# Altium schematic symbol library CM.SchLib: 57 symbols (part 2 of 2)
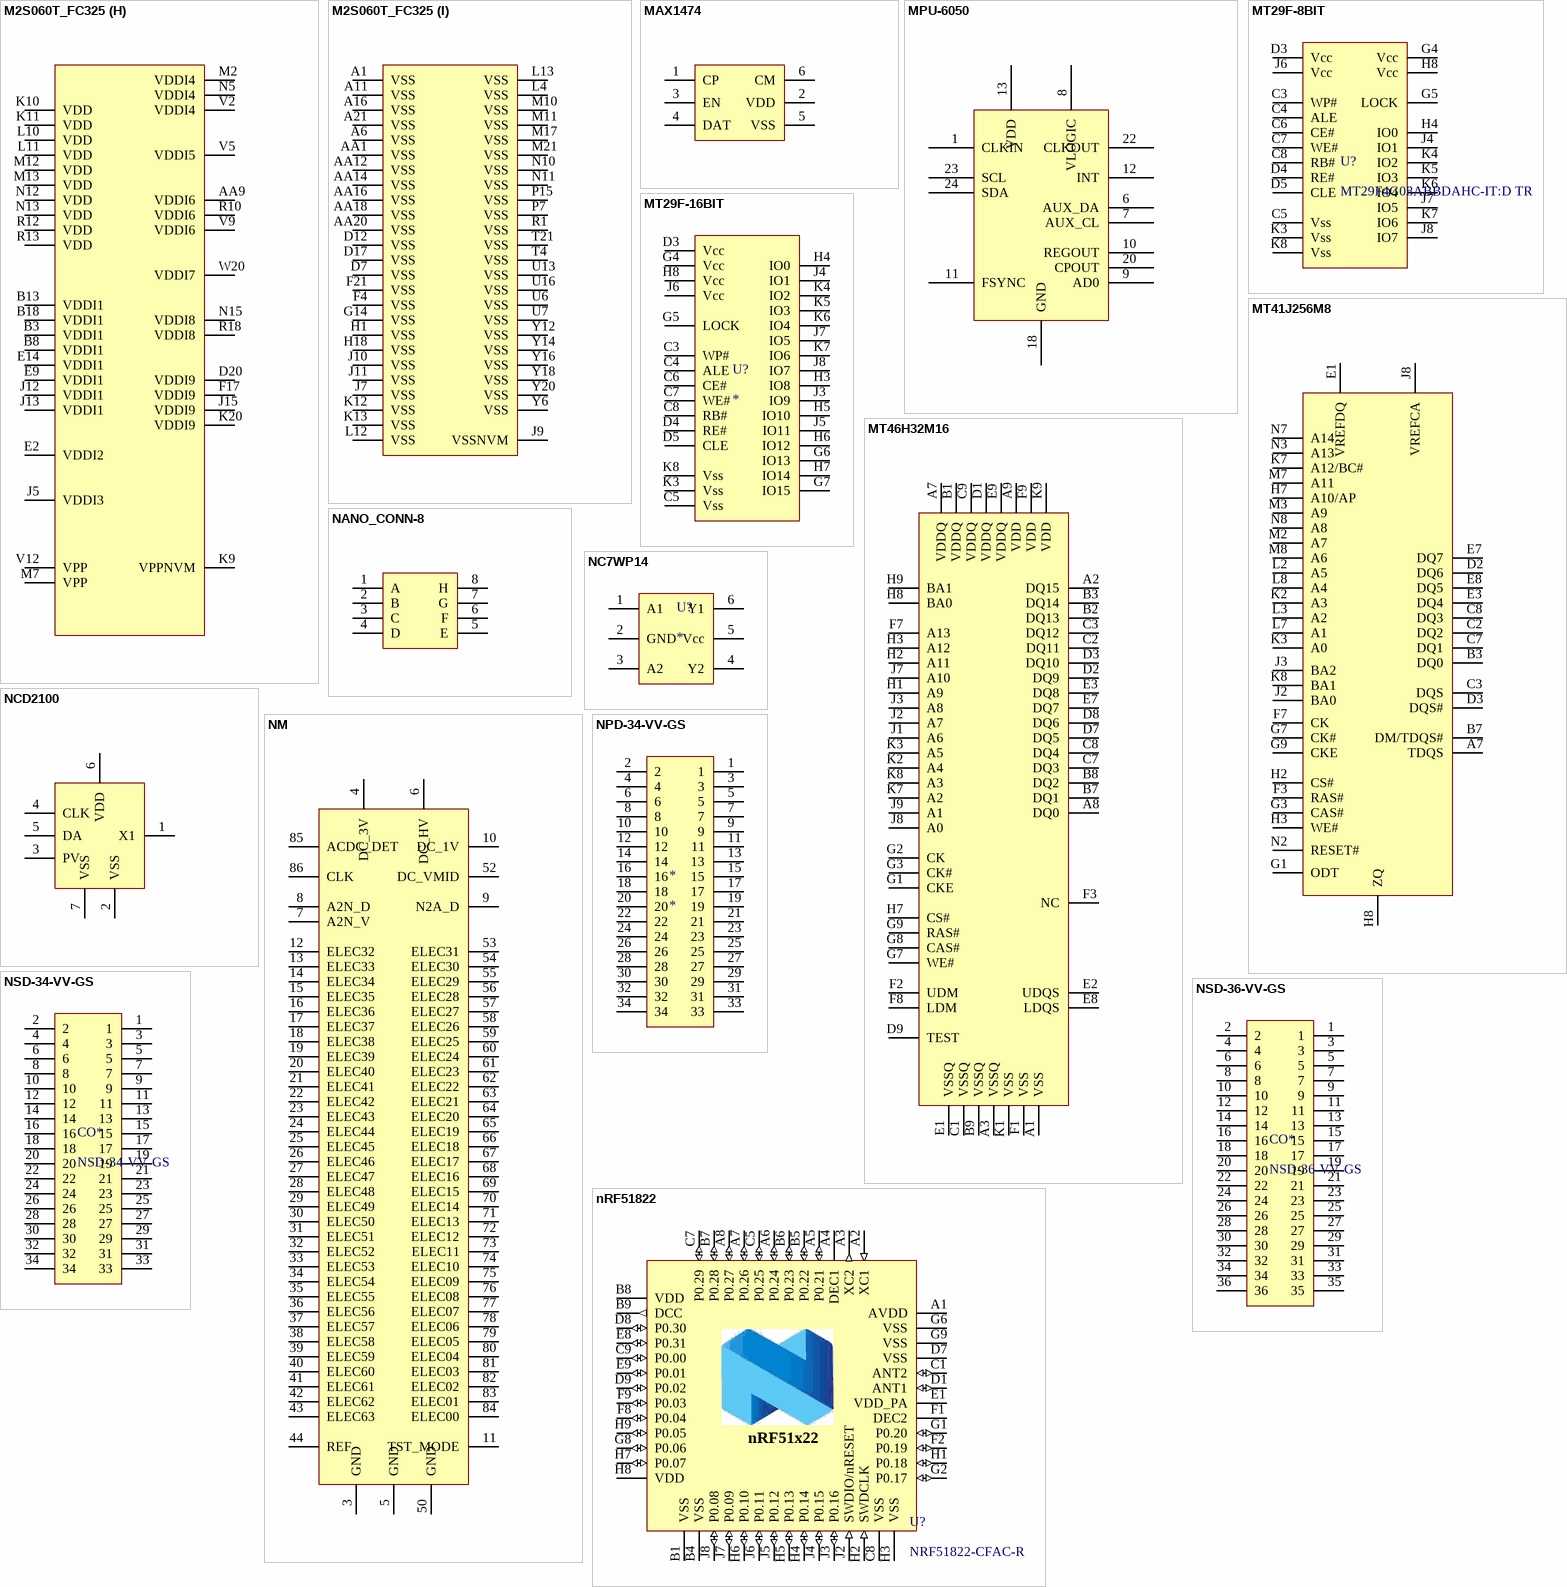
[diagram p13: symbols M2S060T_FC325 to NSD-36-VV-GS]

## MT46H32M16
designator U?
Micron DRAM, 512Mb, 16x32; Manufacturer: Micron; Manufacturer PN: MT46H32M16; Supplier PN: 557-1727-1-ND; Supplier: Digikey
footprint VFBGA-60
pins: A1 VSS, A2 DQ15, A3 VSSQ, A7 VDDQ (power), A8 DQ0, A9 VDD (power), B1 VDDQ (power), B2 DQ13, B3 DQ14, B7 DQ1, B8 DQ2, B9 VSSQ, C1 VSSQ, C2 DQ11, C3 DQ12, C7 DQ3, C8 DQ4, C9 VDDQ (power), D1 VDDQ (power), D2 DQ9, D3 DQ10, D7 DQ5, D8 DQ6, D9 TEST, E1 VSSQ, E2 UDQS, E3 DQ8, E7 DQ7, E8 LDQS, E9 VDDQ (power), F1 VSS, F2 UDM, F3 NC, F7 A13, F8 LDM, F9 VDD (power), G1 CKE, G2 CK, G3 CK#, G7 WE#, G8 CAS#, G9 RAS#, H1 A9, H2 A11, H3 A12, H7 CS#, H8 BA0, H9 BA1, J1 A6, J2 A7, J3 A8, J7 A10, J8 A0, J9 A1, K1 VSS, K2 A4, K3 A5, K7 A2, K8 A3, K9 VDD (power)

## NANO_CONN-8
designator CO?, comment A79613-001
Omnetics connector; Manufacturer: Omnetics; Manufacturer PN: A79613-001
footprint NANO_CONN-8
pins: 1 A, 2 B, 3 C, 4 D, 5 E, 6 F, 7 G, 8 H

## NC7WP14
designator U?
IC
footprint micropak
pins: 1 A1, 2 GND, 3 A2, 4 Y2, 5 Vcc, 6 Y1

## NCD2100
designator U?
Programmable capacitor
footprint DFN-6 - ixys
pins: 1 X1, 2 VSS, 3 PV, 4 CLK, 5 DA, 6 VDD, 7 VSS

## NM
designator U?
Neuromodulator
footprint NM (Neuromodulator)
footprint NMv2
pins: 1 AC_PWR+ hidden, 2 AC_PWR- hidden, 3 GND (power), 4 DC_3V (power), 5 GND (power), 6 DC_HV, 7 A2N_V, 8 A2N_D, 9 N2A_D, 10 DC_1V, 11 TST_MODE, 12 ELEC32, 13 ELEC33, 14 ELEC34, 15 ELEC35, 16 ELEC36, 17 ELEC37, 18 ELEC38, 19 ELEC39, 20 ELEC40, 21 ELEC41, 22 ELEC42, 23 ELEC43, 24 ELEC44, 25 ELEC45, 26 ELEC46, 27 ELEC47, 28 ELEC48, 29 ELEC49, 30 ELEC50, 31 ELEC51, 32 ELEC52, 33 ELEC53, 34 ELEC54, 35 ELEC55, 36 ELEC56, 37 ELEC57, 38 ELEC58, 39 ELEC59, 40 ELEC60, 41 ELEC61, 42 ELEC62, 43 ELEC63, 44 REF, 45 COUNT hidden, 46 PAC hidden, 47 A_TST_HV hidden, 48 A_TST_BG hidden, 49 A_TEST hidden, 50 GND (power), 51 D_TEST hidden, 52 DC_VMID, 53 ELEC31, 54 ELEC30, 55 ELEC29, 56 ELEC28, 57 ELEC27, 58 ELEC26, 59 ELEC25, 60 ELEC24, 61 ELEC23, 62 ELEC22, 63 ELEC21, 64 ELEC20, 65 ELEC19, 66 ELEC18, 67 ELEC17, 68 ELEC16, 69 ELEC15, 70 ELEC14, 71 ELEC13, 72 ELEC12, 73 ELEC11, 74 ELEC10, 75 ELEC09, 76 ELEC08, 77 ELEC07, 78 ELEC06, 79 ELEC05, 80 ELEC04, 81 ELEC03, 82 ELEC02, 83 ELEC01, 84 ELEC00, 85 ACDC_DET, 86 CLK

## NPD-34-VV-GS
designator *
Omnetics connector for Mario
footprint NPD-34-VV-GS
pins: 1, 2, 3, 4, 5, 6, 7, 8, 9, 10, 11, 12, 13, 14, 15, 16, 17, 18, 19, 20, 21, 22, 23, 24, 25, 26, 27, 28, 29, 30, 31, 32, 33, 34

## nRF51822
designator U?, comment NRF51822-CFAC-R
IC; Manufacturer: Nordic; Manufacturer PN: NRF51822-CFAC-R; Supplier: Digikey; Supplier PN: 1490-1041-1-ND
footprint BGA_NORDIC
pins: A1 AVDD (power), A2 XC1 (in), A3 XC2 (out), A4 DEC1 (power), A5 P0.21 (io), A6 P0.24 (io), A7 P0.26 (io), A8 P0.27 (io), B1 VSS (power), B4 VSS (power), B5 P0.22 (io), B6 P0.23 (io), B7 P0.28 (io), B8 VDD (power), B9 DCC (out), C1 ANT2 (io), C5 P0.25 (io), C7 P0.29 (io), C8 VSS (power), C9 P0.00 (io), D1 ANT1 (io), D7 VSS (power), D8 P0.30 (io), D9 P0.02 (io), E1 VDD_PA (power), E8 P0.31 (io), E9 P0.01 (io), F1 DEC2 (power), F2 P0.19 (io), F8 P0.04 (io), F9 P0.03 (io), G1 P0.20 (io), G2 P0.17 (io), G6 VSS (power), G8 P0.06 (io), G9 VSS (power), H1 P0.18 (io), H2 SWDCLK (in), H3 VSS (power), H4 P0.14 (io), H5 P0.13 (io), H6 P0.10 (io), H7 P0.07 (io), H8 VDD (power), H9 P0.05 (io), J2 SWDIO/nRESET (in), J3 P0.16 (io), J4 P0.15 (io), J5 P0.12 (io), J6 P0.11 (io), J7 P0.09 (io), J8 P0.08 (io)
text: nRF51x22

## NSD-34-VV-GS
designator CO*
Omnetics connector for Mario; Manufacturer PN: A79051-001; Manufacturer: Omnetics; Supplier PN: A79051-001; Supplier: Omnetics
footprint NSD-34-VV-GS
pins: 1, 2, 3, 4, 5, 6, 7, 8, 9, 10, 11, 12, 13, 14, 15, 16, 17, 18, 19, 20, 21, 22, 23, 24, 25, 26, 27, 28, 29, 30, 31, 32, 33, 34

## NSD-36-VV-GS
designator CO*
Omnetics connector, 36 pin female; Manufacturer PN: A79027-001; Note: NSD-36-VV-GS with four guide pins; Manufacturer: Omnetics; Supplier PN: A79027-001; Supplier: Omnetics
footprint NSD-36-VV-GS
pins: 1, 2, 3, 4, 5, 6, 7, 8, 9, 10, 11, 12, 13, 14, 15, 16, 17, 18, 19, 20, 21, 22, 23, 24, 25, 26, 27, 28, 29, 30, 31, 32, 33, 34, 35, 36

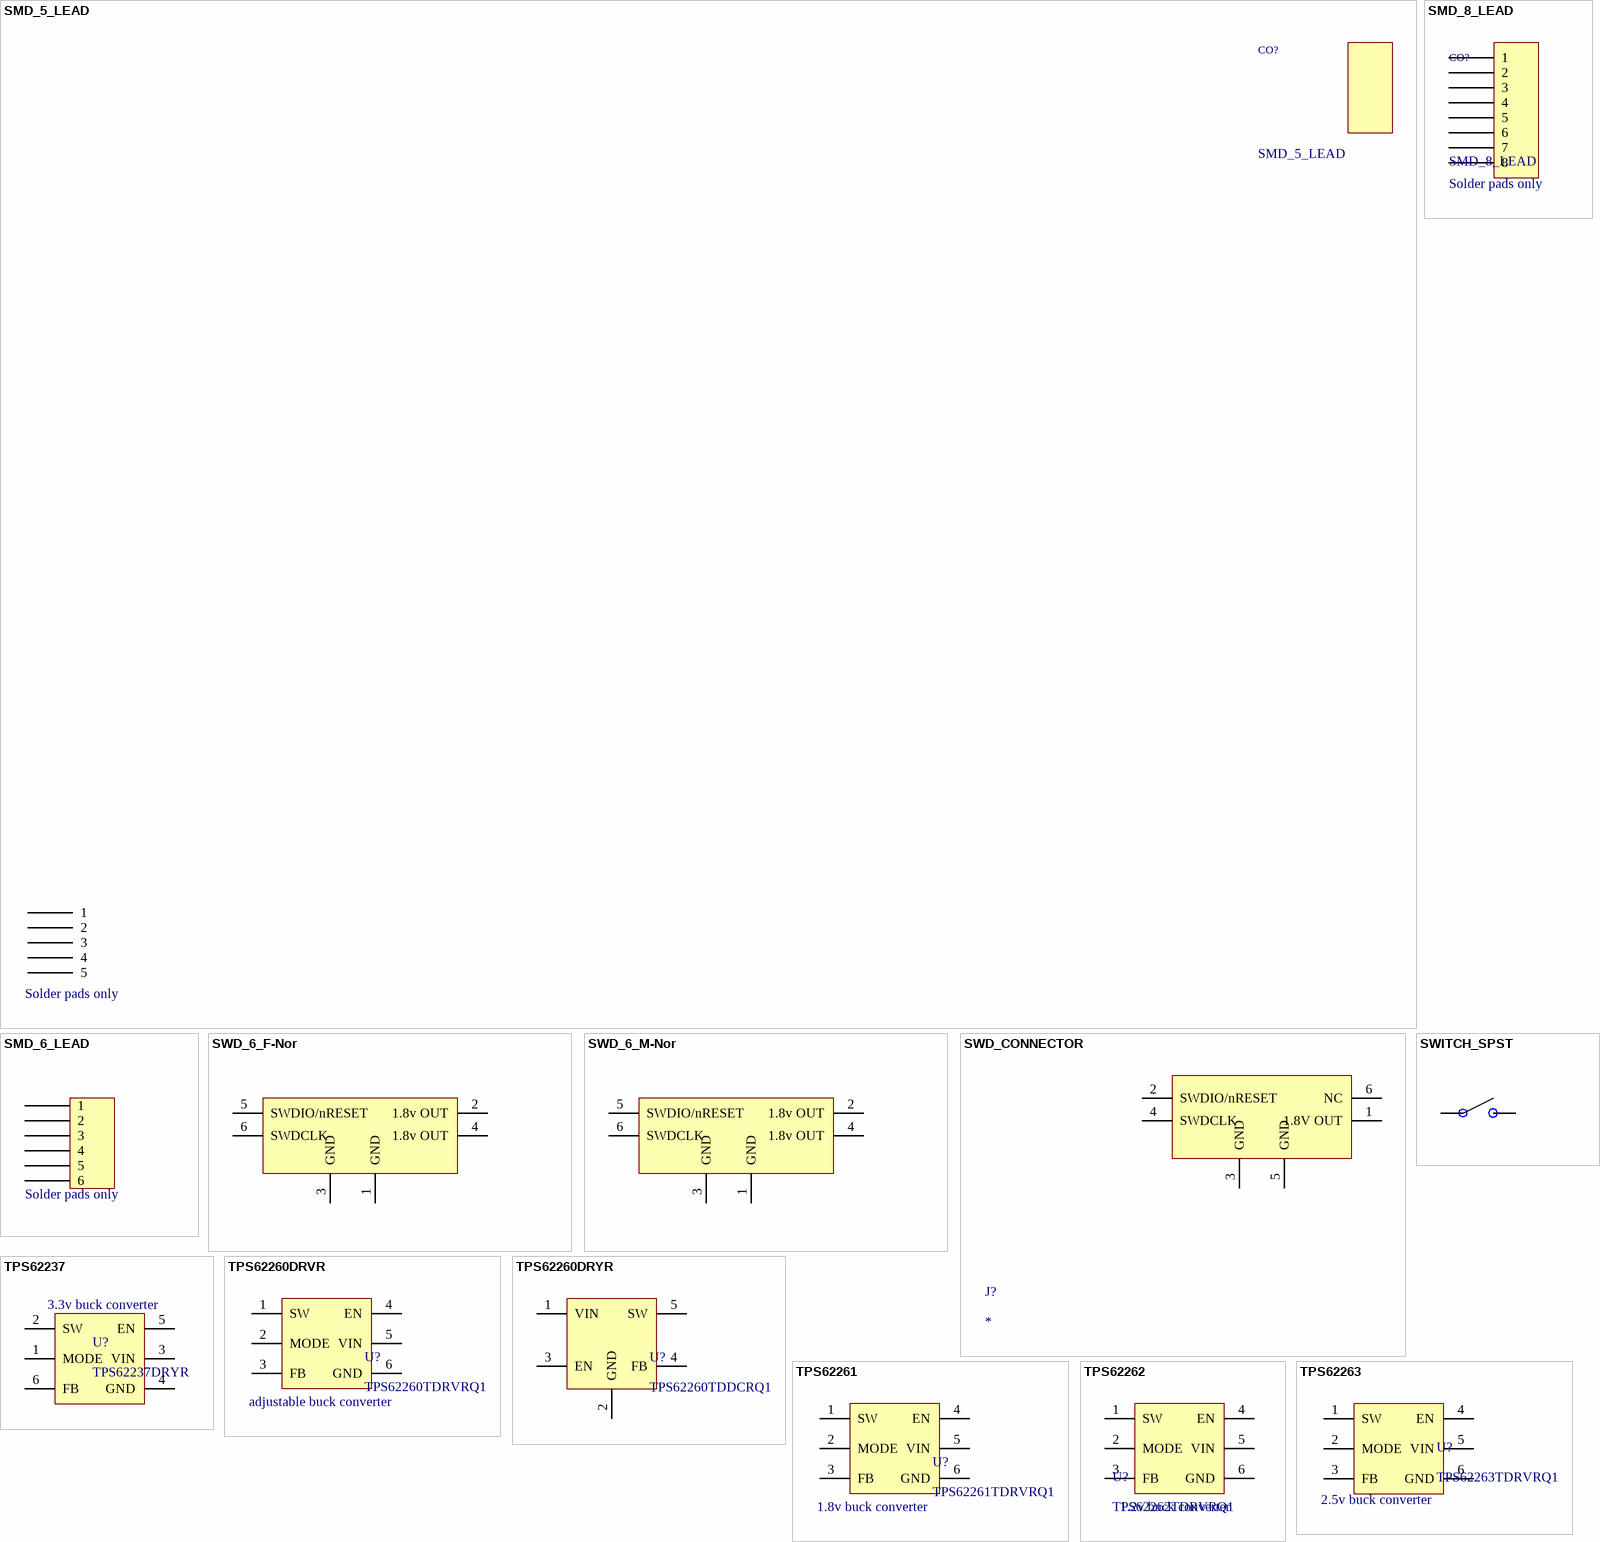
[diagram p11: symbols SMD_5_LEAD to TPS62263]

## SMD_5_LEAD
designator CO?  Note: Solder pads only
footprint CONN_SWD_5
pins: 1, 2, 3, 4, 5

## SMD_6_LEAD
designator CO?  Note: Solder pads only
footprint PWD_CON_6
pins: 1, 2, 3, 4, 5, 6

## SMD_8_LEAD
designator CO?  Note: Solder pads only
footprint CONN_SWD_8
pins: 1, 2, 3, 4, 5, 6, 7, 8

## SWD_6_F-Nor
designator CO
6 pin female SWD header for Nordic; Manufacturer: *; Manufacturer PN: *; Supplier: Digikey; Supplier PN: *
footprint CONN_6-CLP (CLP-103-xx-x-D)
pins: 1 GND (power), 2 1.8v OUT (power), 3 GND (power), 4 1.8v OUT (power), 5 SWDIO/nRESET, 6 SWDCLK

## SWD_6_M-Nor
designator CO
6 pin male SWD header for Nordic; Manufacturer: *; Manufacturer PN: *; Supplier: Digikey; Supplier PN: *
footprint CONN_6-FTSH (FTSH-105-xx-x-DV)
footprint CONN_6-FTSH - flipped (FTSH-105-xx-x-DV)
pins: 1 GND (power), 2 1.8v OUT (power), 3 GND (power), 4 1.8v OUT (power), 5 SWDIO/nRESET, 6 SWDCLK

## SWD_CONNECTOR
designator J?
footprint SWDCON
pins: 1 1.8V OUT "Header 5x2", 2 SWDIO/nRESET "Header 5x2", 3 GND "Header 5x2", 4 SWDCLK "Header 5x2", 5 GND "Header 5x2", 6 NC "Header 5x2"

## SWITCH_SPST
designator SW?
footprint SWITCH_SPST_CHS-01TB (One bit SPST switch)
footprint SWITCH_SPST_CHS-01TA (One bit SPST DIP switch, J-hook)
pins: 1, 2

## TPS62237
designator U?, comment TPS62237DRYR  Note: 3.3v buck converter
3.3v DC-DC; Manufacturer: TI; Supplier PN: 296-39454-1-ND; Supplier: Digikey; Manufacturer PN: TPS62237DRYR
footprint DRY - ti
pins: 1 MODE, 2 SW, 3 VIN, 4 GND, 5 EN, 6 FB

## TPS62260DRVR
designator U?, comment TPS62260TDRVRQ1  Note: adjustable buck converter
adjustable DC-DC; Manufacturer: TI; Supplier PN: 296-36823-1-ND; Supplier: Digikey; Manufacturer PN: TPS62260TDRVRQ1
footprint TPS_PACKAGE_novia (QFN, 6-Leads, Body 2,00x2,00mm, Pitch 0,65mm, Thermal Pad 1,60x1,00mm, IPC Medium Density)
pins: 1 SW, 2 MODE, 3 FB, 4 EN, 5 VIN, 6 GND, 7 GND hidden to GND

## TPS62260DRYR
designator U?, comment TPS62260TDDCRQ1
adjustable DC-DC; Manufacturer: TI; Note: adjustable buck converter; Supplier PN: 296-40842-1-ND; Supplier: Digikey; Manufacturer PN: TPS62260TDDCRQ1
footprint TPS_PACKAGE_novia (QFN, 6-Leads, Body 2,00x2,00mm, Pitch 0,65mm, Thermal Pad 1,60x1,00mm, IPC Medium Density)
footprint SOT23-5
pins: 1 VIN, 2 GND, 3 EN, 4 FB, 5 SW

## TPS62261
designator U?, comment TPS62261TDRVRQ1  Note: 1.8v buck converter
1.8v DC-DC; Manufacturer: TI; Supplier PN: 296-25729-1-ND; Supplier: Digikey; Manufacturer PN: TPS62261TDRVRQ1
footprint TPS_PACKAGE_novia (QFN, 6-Leads, Body 2,00x2,00mm, Pitch 0,65mm, Thermal Pad 1,60x1,00mm, IPC Medium Density)
pins: 1 SW, 2 MODE, 3 FB, 4 EN, 5 VIN, 6 GND, 7 GND hidden to GND

## TPS62262
designator U?, comment TPS62262TDRVRQ1  Note: 1.2v buck converter
1.2v DC-DC; Manufacturer: TI; Supplier: Digikey; Supplier PN: 296-25730-1-ND; Manufacturer PN: TPS62262TDRVRQ1
footprint TPS_PACKAGE_novia (QFN, 6-Leads, Body 2,00x2,00mm, Pitch 0,65mm, Thermal Pad 1,60x1,00mm, IPC Medium Density)
pins: 1 SW, 2 MODE, 3 FB, 4 EN, 5 VIN, 6 GND, 7 GND hidden to GND

## TPS62263
designator U?, comment TPS62263TDRVRQ1  Note: 2.5v buck converter
2.5v DC-DC; Manufacturer: TI; Supplier: Digikey; Supplier PN: 296-25731-1-ND; Manufacturer PN: TPS62263TDRVRQ1
footprint TPS_PACKAGE_novia (QFN, 6-Leads, Body 2,00x2,00mm, Pitch 0,65mm, Thermal Pad 1,60x1,00mm, IPC Medium Density)
pins: 1 SW, 2 MODE, 3 FB, 4 EN, 5 VIN, 6 GND, 7 GND hidden to GND

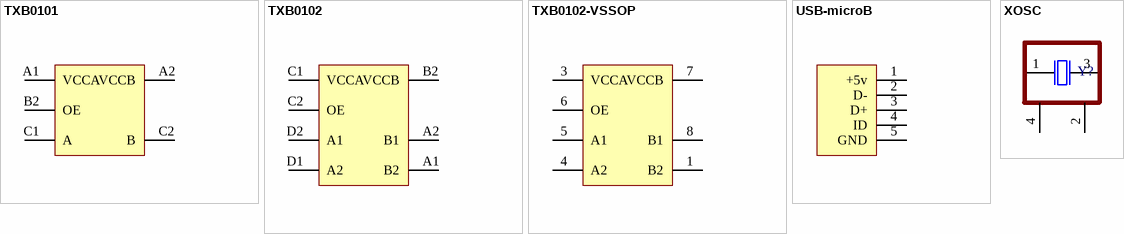
[diagram p12: symbols TXB0101 to XOSC]

## TXB0101
designator U?
Single level converter; Manufacturer PN: TXB0101YZPR; Manufacturer: TI; Supplier PN: 296-21927-1-ND; Supplier: Digikey
footprint YZP6-ti
pins: A1 VCCA, A2 VCCB, B1 GND hidden to GND, B2 OE, C1 A, C2 B

## TXB0102
designator U?
Dual level converter; Manufacturer PN: TXB0102YZPR; Manufacturer: TI; Supplier PN: 296-21961-1-ND; Supplier: Digikey
footprint YZP8-ti
footprint VSSOP8 - ti
pins: A1 B2, A2 B1, B1 GND hidden to GND, B2 VCCB, C1 VCCA, C2 OE, D1 A2, D2 A1

## TXB0102-VSSOP
designator U?
Dual level converter
footprint VSSOP8 - ti
pins: 1 B2, 2 GND hidden to GND, 3 VCCA, 4 A2, 5 A1, 6 OE, 7 VCCB, 8 B1

## USB-microB
designator CO?, comment USB micro-B
USB micro-B connector; Manufacturer: Amphenol; Manufacturer PN: 10118194-0001LF; Supplier: Digikey; Supplier PN: 609-4618-1-ND
footprint USB-microB_amp_10118194-0001LF
pins: 1 +5v (power), 2 D-, 3 D+, 4 ID, 5 GND (power), 6 hidden, 7 hidden, 8 hidden, 9 hidden

## XOSC
designator Y?
Manufacturer: NDK; Supplier: Digikey
footprint XOSC_4PIN
pins: 1 inp, 2 GND, 3 out, 4 GND